# EAGLE library part YUNBOARD_CONNECT (library pierre_vv)
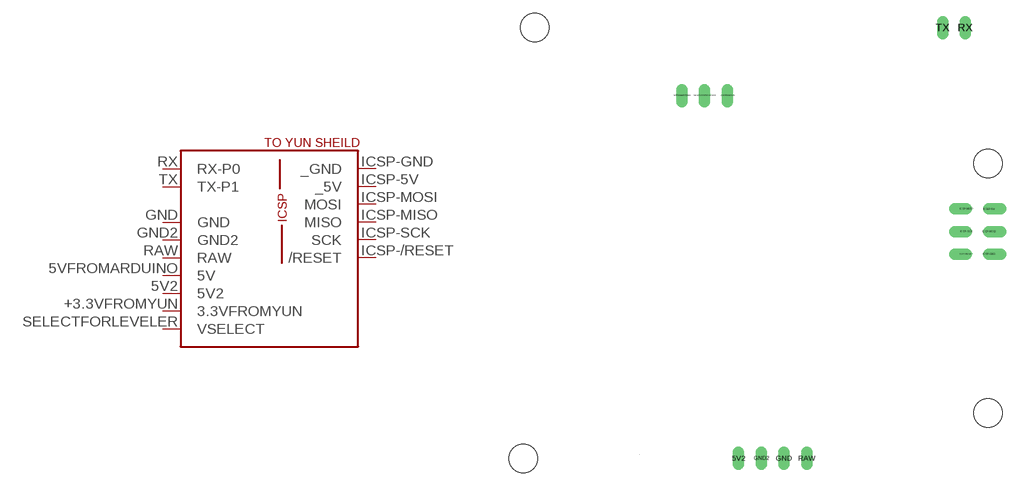
[diagram p5: symbol with the pads of YUN-RECEIVE; footprint YUN-RECEIVE]

Designator prefix -

## YUNBOARD_CONNECT  [YUN-RECEIVE]
5V2  5V2
5VFROMARDUINO  5V
+3.3VFROMYUN  3.3VFROMYUN
GND  GND
GND2  GND2
ICSP-5V  _5V
ICSP-/RESET  /RESET
ICSP-GND  _GND
ICSP-MISO  MISO
ICSP-MOSI  MOSI
ICSP-SCK  SCK
RAW  RAW
RX  RX-P0
SELECTFORLEVELER  VSELECT
TX  TX-P1

## Footprint YUN-RECEIVE (pad centres in mm)
drill 0.8 long: 5V2 0,-27.94; 5VFROMARDUINO -6.35,12.7; +3.3VFROMYUN -1.27,12.7; GND 5.08,-27.94; GND2 2.54,-27.94; RAW 7.62,-27.94; RX 25.4,20.32; SELECTFORLEVELER -3.81,12.7; TX 22.86,20.32
drill 0.8 offset: ICSP-5V 28.067,0; ICSP-/RESET 25.527,-5.08; ICSP-GND 28.067,-5.08; ICSP-MISO 25.527,0; ICSP-MOSI 28.067,-2.54; ICSP-SCK 25.527,-2.54
hole 3.2 at 27.94,5.08
hole 3.2 at 27.94,-22.86
hole 3.2 at -22.86,20.32
hole 3.2 at -24.13,-27.94